# Altium schematic symbol library PWRCONV.SchLib: 23 symbols
Pins are listed as number, name and electrical type; pins without a type are passive.

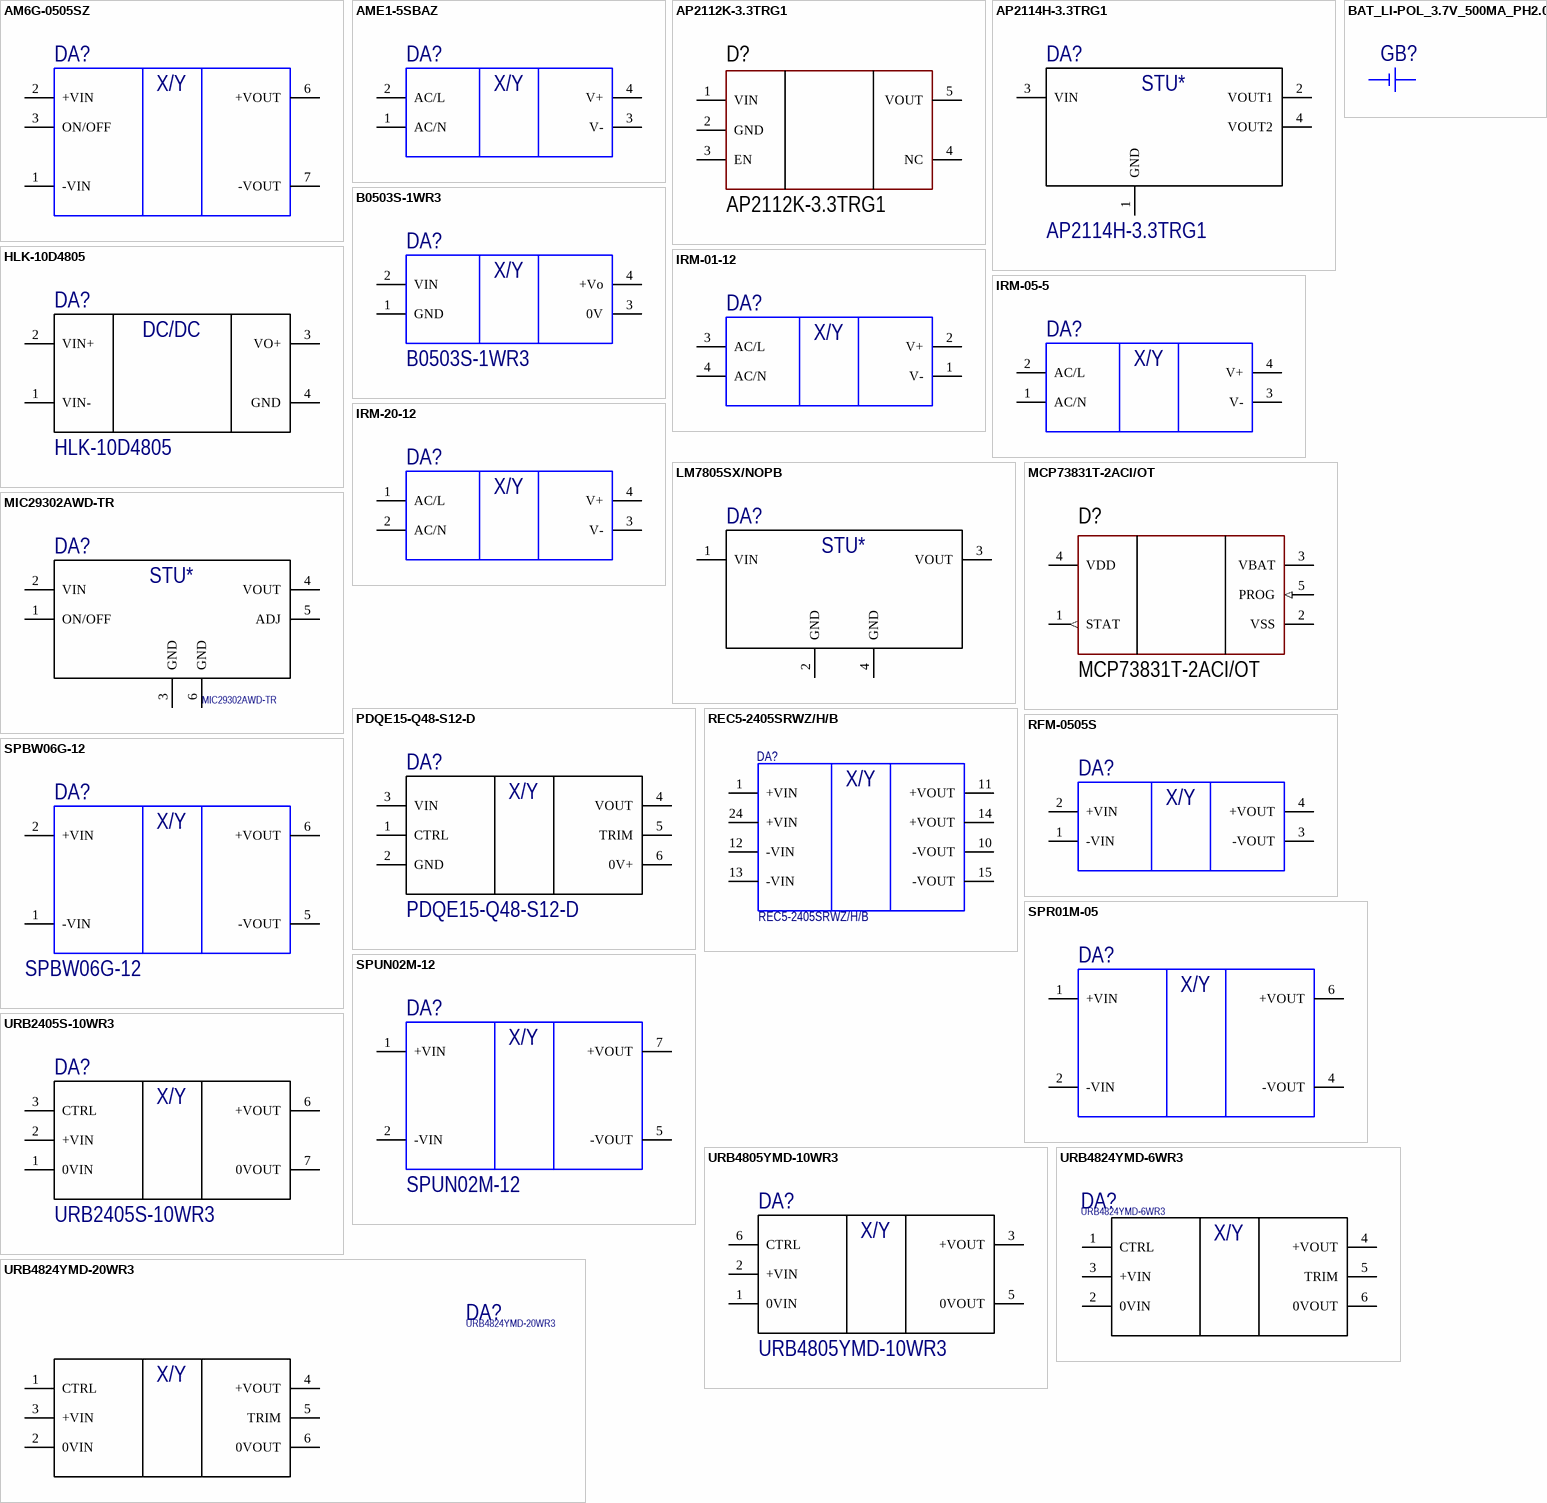
[diagram p0: symbols AM6G-0505SZ to URB4824YMD-20WR3]

## AM6G-0505SZ
designator DA?
DC/DC CONVERTER 3.3V 6W; Manufacturer: Aimtec; Manufacturer Part Number: AM6G-0505SZ; TH: 1
footprint AM6G-Z
pins: 1 -VIN, 2 +VIN, 3 ON/OFF, 6 +VOUT, 7 -VOUT
text: X/Y

## AME1-5SBAZ
designator DA?
AC/DC CONVERTER 5V 1W; Manufacturer: Aimtec; Manufacturer Part Number: AME1-5SBAZ; TH: 1
footprint AME1-5SBAZ
pins: 1 AC/N, 2 AC/L, 3 V-, 4 V+
text: X/Y

## AP2112K-3.3TRG1
designator D?
IC REG LINEAR 3.3V 600MA SOT25; Manufacturer: Diodes Incorporated; Number of Regulators: 1; Quiescent Current: 55uA; Polarity: Positive; Max Input Voltage: 6V; Min Input Voltage: 2.5V; Accuracy: 1.5%; Dropout Voltage: 250mV; Output Type: Fixed; Manufacturer Part Number: AP2112K-3.3TRG1; HelpURL: https://www.digikey.com/product-detail/en/diodes-incorporated/AP2112K-3-3TRG1/AP2112K-3-3TRG1DITR-ND/4470746; ComponentKind: SOT-25; Supplier 1: Future Electronics; RoHS: Yes; Category: Voltage Regulators - Linear; Stock 1: 49875; Pricing 1: 1=0,46000, 50=0,22000, 100=0,19200, 500=0,14100, 1500=0,11500 (USD); Mount: Surface Mount; Case/Package: SOT-23-5; Number of Pins: 5; Min Operating Temperature: -40°C; Max Operating Temperature: 85°C; Output Current: 600mA; Max Output Current: 600mA; Output Voltage: 3.3V; Number of Outputs: 1; Package Quantity: 1; Packaging: Tape and Reel; Length: 3.1mm; Width: 1.7mm; Height: 1.3mm; Lead Free: Lead Free; ComponentLink1URL: https://datasheet.ciiva.com/29569/ap2112-29569919.pdf?src-supplier=Digi-Key; ComponentLink1Description: https://datasheet.ciiva.com/29569/ap2112-29569919.pdf?src-supplier=Digi-Key; ComponentLink2URL: https://datasheet.ciiva.com/30016/ap2112-30016792.pdf?src-supplier=Avnet; ComponentLink2Description: https://datasheet.ciiva.com/30016/ap2112-30016792.pdf?src-supplier=Avnet; ComponentLink3URL: https://datasheet.ciiva.com/29569/ap2112-29569917.pdf?src-supplier=Digi-Key; ComponentLink3Description: https://datasheet.ciiva.com/29569/ap2112-29569917.pdf?src-supplier=Digi-Key; ComponentLink4URL: https://datasheet.ciiva.com/29569/ap2112-29569918.pdf?src-supplier=Digi-Key; ComponentLink4Description: https://datasheet.ciiva.com/29569/ap2112-29569918.pdf?src-supplier=Digi-Key; Supplier Part Number 1: 2098204
footprint AP2112K-3.3TRG1 (SOT-25)
pins: 1 VIN, 2 GND, 3 EN (power), 4 NC, 5 VOUT

## AP2114H-3.3TRG1
designator DA?
IC REG LINEAR 3.3V 1A SOT223; Manufacturer: Diodes Incorporated; Max Input Voltage: 6V; Manufacturer Part Number: AP2114H-3.3TRG1; Case/Package: SOT-223; Category: Voltage Regulators - Linear; Min Operating Temperature: -40°C; Max Operating Temperature: 85°C; Output Current: 1A; Output Voltage: 3.3V
footprint TO-221AA(SOT-223)
pins: 1 GND, 2 VOUT1, 3 VIN, 4 VOUT2
text: STU*

## B0503S-1WR3
designator DA?
DC DC CONVERTER 3.3V 1W; Manufacturer: MORNSUN; Supplier 1: Digi-Key; Manufacturer Part Number: B0503S-1WR3; RoHS: No; Stock 1: 686; Pricing 1: 1=2,17000, 5=2,13800, 10=2,10400, 25=2,04760, 50=1,98000, 100=1,92380, 250=1,86752, 500=1,73250 (USD); Supplier Part Number 1: 2725-B0503S-1WR3-ND
footprint B0503S-1WR3 (4-SIP Module 11.6mm x 6.0mm x 10.2mm)
pins: 1 GND, 2 VIN, 3 0V, 4 +Vo
text: X/Y

## BAT_LI-POL_3.7V_500MA_PH2.0
designator GB?  (mechanical)
BATTERY LITHIUM 3.7V 500MAH; Manufacturer: Adafruit Industries LLC; Manufacturer Part Number: 1578; Link: https://ru.aliexpress.com/item/32902573404.html?spm=a2g0v.12010615.8148356.11.22885bd9U7F8Qr

## HLK-10D4805
designator DA?
DC-DC ISOLATED 10W 48VDC INPUT, 5VDC 2A OUTPUT; Manufacturer: Hi-Link; TH: 1; Manufacturer Part Number: HLK-10D4805
footprint HLK-10D4805 (Width 25.4 mm, Lenght 25.4 mm, Height 11 mm)
pins: 1 VIN-, 2 VIN+, 3 VO+, 4 GND
text: DC/DC

## IRM-01-12
designator DA?
AC/DC CONVERTER 12V 1W; Manufacturer: Mean Well; Manufacturer Part Number: IRM-01-12; TH: 1
footprint MW_IRM-01
pins: 1 V-, 2 V+, 3 AC/L, 4 AC/N
text: X/Y

## IRM-05-5
designator DA?, comment IRM-5  (value not drawn)
AC/DC CONVERTER 5V 5W; Manufacturer: Mean Well; Manufacturer Part Number: IRM-05-5; TH: 1
footprint IRM-05
pins: 1 AC/N, 2 AC/L, 3 V-, 4 V+
text: X/Y

## IRM-20-12
designator DA?  (value not drawn)
AC/DC CONVERTER 12V 22W; Manufacturer: Mean Well; TH: 1; Manufacturer Part Number: IRM-20-12
footprint MW_IRM-20
pins: 1 AC/L, 2 AC/N, 3 V-, 4 V+
text: X/Y

## LM7805SX/NOPB
designator DA?
IC REG LINEAR 5V 1.5A DDPAK/TO263-3; Manufacturer Part Number: LM7805SX/NOPB; Manufacturer: Texas Instruments; TH: 1
footprint DPAK254P1435X460-4M (D2-PAK, 4-Pads, Body 7,55x8,61mm (max), IPC Low Density)
pins: 1 VIN, 2 GND, 3 VOUT, 4 GND
text: STU*

## MCP73831T-2ACI/OT
designator D?
Charger IC Lithium Ion/Polymer SOT-23-5; Manufacturer: Microchip Technology; Model: MCP73831T-2ACI/OT; ComponentKind: SOT-23-5; HelpURL: https://www.digikey.com/product-detail/en/microchip-technology/MCP73831T-2ACI-OT/MCP73831T-2ACI-OTTR-ND/964301
footprint MCP73831T (Charger IC Lithium Ion/Polymer)
pins: 1 STAT (out), 2 VSS (power), 3 VBAT (power), 4 VDD (power), 5 PROG (in)

## MIC29302AWD-TR
designator DA?
IC REG LINEAR POS ADJ 3A TO252-5; Manufacturer: Microchip; Number of Outputs: 1; Min Input Voltage: 3V; Output Voltage: 15V; Dropout Voltage: 450mV; Polarity: Positive; Output Voltage Accuracy: 2%; Supplier 1: Digi-Key; Manufacturer Part Number: MIC29302AWD-TR; RoHS: No; Category: Voltage Regulators - Linear; Stock 1: 2431; Pricing 1: 1=1,96000, 25=1,64000, 100=1,49000 (USD); Mount: Surface Mount; Case/Package: TO-263-6; Min Operating Temperature: -40°C; Max Operating Temperature: 125°C; Packaging: Tape and Reel; Output Current: 3A; Number of Regulators: 1; Min Current Limit: 3A; Series: -; Lead Free: Lead Free; RoHS Compliant: No; ComponentLink1URL: https://datasheet.ciiva.com/6582/mic29302a-6582272.pdf?src-supplier=Digi-Key; ComponentLink1Description: https://datasheet.ciiva.com/6582/mic29302a-6582272.pdf?src-supplier=Digi-Key; ComponentLink2URL: https://datasheet.ciiva.com/6582/mic29302a-6582270.pdf?src-supplier=Digi-Key; ComponentLink2Description: https://datasheet.ciiva.com/6582/mic29302a-6582270.pdf?src-supplier=Digi-Key; Supplier Part Number 1: 576-4106-1-ND
footprint TO252-6 (D2-PAK, 6-Pads, Body 7,68x8,69mm (max), IPC Low Density)
pins: 1 ON/OFF, 2 VIN, 3 GND, 4 VOUT, 5 ADJ, 6 GND
text: STU*

## PDQE15-Q48-S12-D
designator DA?
Isolated DC/DC Converters dc-dc isolated, 15 W, 18 75 Vdc input, 12 Vdc, 1.25 A, single regulated output, DIP; Manufacturer: CUI Inc.; TH: 1; Manufacturer Part Number: PDQE15-Q48-S12-D
pins: 1 CTRL, 2 GND, 3 VIN, 4 VOUT, 5 TRIM, 6 0V+
text: X/Y

## REC5-2405SRWZ/H/B
designator DA?
CONV DC/DC 5W 9-36VIN 05VOUT; Manufacturer: Recom; Number of Outputs: 1; Min Input Voltage: 9V; Efficiency: 82%; Max Input Voltage: 36V; Voltage - Output 1: 5V; Max Output Current: 1A; Isolation Voltage: 1.6kV; Nominal Input Voltage: 24V; Isolation: Isolated; Supplier 1: Digi-Key; Supplier Part Number 1: 945-2505-ND; Manufacturer Part Number: REC5-2405SRWZ/H/B; RoHS: Yes; Category: Board Mount Modules; Stock: 13; Pricing: 1=21,21000, 5=20,73200, 10=20,57200, 25=20,25040, 50=19,28600, 100=18,18010, 250=17,35736, 500=17,10020 (USD); Mount: Through Hole; Case/Package: DIP; Number of Pins: 8; Weight: 13g; Min Operating Temperature: -40°C; Max Operating Temperature: 75°C; Packaging: Rail/Tube; Output Power: 5W; Package Quantity: 15; Max Power Dissipation: 5W; Max Output Voltage: 5V; Features: SCP; Series: ECONOLINE REC5; Output Current: 1A; Output Voltage: 5V; Length: 32mm; Width: 20.3mm; Height: 10.2mm; Depth: 20.3mm; RoHS Compliant: Yes; Lead Free: Lead Free; ComponentLink1URL: http://components.arrow.com/part/dataview/0323_02023240?src-supplier=Arrow+Europe; ComponentLink1Description: http://components.arrow.com/part/dataview/0323_02023240?src-supplier=Arrow+Europe; ComponentLink2URL: http://www.mouser.com/ds/2/468/REC5-S_DRW_Z-958358.pdf?src-supplier=Mouser; ComponentLink2Description: http://www.mouser.com/ds/2/468/REC5-S_DRW_Z-958358.pdf?src-supplier=Mouser; ComponentLink3URL: http://www.recom-power.com/pdf/Econoline/REC5-S_DRW_Z.pdf?src-supplier=Digi-Key; ComponentLink3Description: http://www.recom-power.com/pdf/Econoline/REC5-S_DRW_Z.pdf?src-supplier=Digi-Key; ComponentLink4URL: https://www.recom-power.com/pdf/Econoline/REC5-S_DRW_Z.pdf?src-supplier=Digi-Key; ComponentLink4Description: https://www.recom-power.com/pdf/Econoline/REC5-S_DRW_Z.pdf?src-supplier=Digi-Key
footprint CONV_REC5-2405SRWZ/H/B
pins: 1 +VIN, 10 -VOUT, 11 +VOUT, 12 -VIN, 13 -VIN, 14 +VOUT, 15 -VOUT, 24 +VIN
text: X/Y

## RFM-0505S
designator DA?
DC DC CONVERTER 5V 1W; Manufacturer: Recom Power; Manufacturer Part Number: RFM-0505S; TH: 1
footprint RFM-XXXX(SIP4 MODULE) (SIP4)
pins: 1 -VIN, 2 +VIN, 3 -VOUT, 4 +VOUT
text: X/Y

## SPBW06G-12
designator DA?
Isolated DC/DC Converters 18-75Vin 12Vout 500mA SIP8 Reg Iso; Manufacturer: Mean Well; TH: 1; Output Power: 6W; Input Voltage, Nominal: 48V; Output Voltage-Channel 1: 12V; Isolation Voltage: 1.5kV; Manufacturer Part Number: SPBW06G-12; Output Current-Channel 1: 500mA; Minimum Operating Temperature: -40; Maximum Operating Temperature: +85
footprint SPBW06X-XX (SIP Package 21.8x9.2mm Height 11.2mm)
pins: 1 -VIN, 2 +VIN, 5 -VOUT, 6 +VOUT
text: X/Y

## SPR01M-05
designator DA?
DC/DC CONVERTER 5V 1W; Manufacturer: MEAN WELL; Manufacturer Part Number: SPR01M-05; TH: 1
footprint SRP01X-XX (Isolated DC/DC Converters 1W 5V/0-200mA W/EMI FILTER)
pins: 1 +VIN, 2 -VIN, 4 -VOUT, 6 +VOUT
text: X/Y

## SPUN02M-12
designator DA?
Isolated DC/DC Converters 12Vin 12Vout 0-167mA 2W SIP Unreg Iso; Manufacturer: Mean Well; Input Voltage, Nominal: 12V; Max Input Voltage: 13.2V; Output Voltage: 12; Min Input Voltage: 10.8; Manufacturer Part Number: SPUN02M-12; Min Operating Temperature: -40°C; Max Operating Temperature: +105°C
footprint SPUN02M-XX (SIP Package 19.6x7.2mm Height 10.2mm)
pins: 1 +VIN, 2 -VIN, 5 -VOUT, 7 +VOUT
text: X/Y

## URB2405S-10WR3
designator DA?
Isolated Module DC DC Converter 1 Output 5Vout 2A 9V-36V Input; Manufacturer: Mornsun America, LLC; Manufacturer Part Number: URB2405S-10WR3; Supplier 1: Digi-Key; RoHS: No; Category: Voltage Regulators - Switching; Stock 1: 76; Pricing 1: 1=14,63000, 5=14,51600, 10=14,40600, 25=14,18400, 50=13,74080, 100=12,41100, 250=12,18944, 500=11,96778 (USD); Supplier Part Number 1: 2725-URB4805YMD-10WR3-ND; Supplier 2: Digi-Key; Stock 2: 88; Pricing 2: 1=9,29000, 5=9,22000, 10=9,14900, 25=9,00800, 50=8,72660, 100=7,88200, 250=7,74124, 500=7,60050 (USD); Supplier Part Number 2: 2725-URB2405S-10WR3-ND
footprint URBXXXXS-10WR3 (SIP Package 22x9.5mm Height 12mm)
pins: 1 0VIN, 2 +VIN, 3 CTRL, 6 +VOUT, 7 0VOUT
text: X/Y

## URB4805YMD-10WR3
designator DA?
Isolated Module DC DC Converter 1 Output 5Vout 2A 18V-75V Input; Manufacturer: Mornsun America, LLC; Manufacturer Part Number: URB4805YMD-10WR3; Supplier 1: Digi-Key; RoHS: No; Category: Voltage Regulators - Switching; Stock 1: 76; Pricing 1: 1=14,63000, 5=14,51600, 10=14,40600, 25=14,18400, 50=13,74080, 100=12,41100, 250=12,18944, 500=11,96778 (USD); Supplier Part Number 1: 2725-URB4805YMD-10WR3-ND
footprint URBXXXXYMD-10WR3 (Mornsun America, URB4805YMD-10WR3 (10W), LLC 6-DIP Module, 5 Leads (25.4mm x 25.4mm x 11.7mm))
pins: 1 0VIN, 2 +VIN, 3 +VOUT, 5 0VOUT, 6 CTRL
text: X/Y

## URB4824YMD-6WR3
designator DA?
Isolated Module DC DC Converter 1 Output 24V    250mA 18V - 75V Input; Manufacturer: MORNSUN; Supplier 1: Digi-Key; Manufacturer Part Number: URB4824YMD-6WR3; Stock 1: 48; Pricing 1: 1=14,84000, 5=14,61400, 10=14,40000, 25=13,98360, 50=13,56760, 100=13,17380, 250=12,79128, 500=12,13878 (USD); Supplier Part Number 1: 2725-URB4824YMD-6WR3-ND
pins: 1 CTRL, 2 0VIN, 3 +VIN, 4 +VOUT, 5 TRIM, 6 0VOUT
text: X/Y

## URB4824YMD-20WR3
designator DA?
20W Ultra Wide Input Isolated and Regulated Single Output, DC-DC Converter; Manufacturer: MORNSUN; Supplier 1: Digi-Key; Manufacturer Part Number: URB4824YMD-20WR3; Stock 1: 76; Pricing 1: 1=22,83000, 5=22,48800, 10=22,15100, 25=21,51000, 50=20,48640, 100=19,89000, 250=19,30504, 500=18,67504 (USD); Supplier Part Number 1: 2725-URB4824YMD-20WR3-ND
footprint URBxxxxYMD-20WR3 (5-DIP Module, 4 Leads 1.00"" L x 1.00"" W x 0.46"" H (25.4mm x 25.4mm x 11.7mm))
pins: 1 CTRL, 2 0VIN, 3 +VIN, 4 +VOUT, 5 TRIM, 6 0VOUT
text: X/Y